# EAGLE library part MS561101BA03-00 (library Sensors)
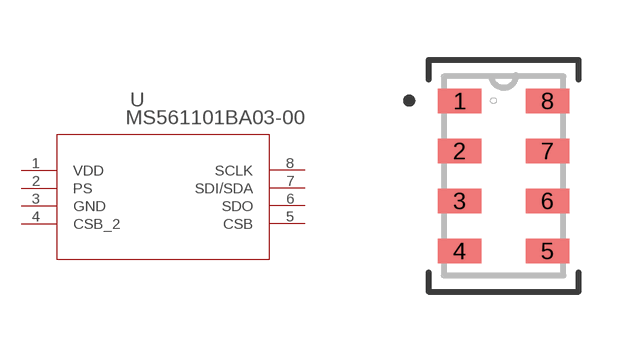
[diagram p1: symbol with the pads of SON8_MS5611; footprint SON8_MS5611]

Designator prefix U

## MS561101BA03-00 (BUILT_BY: EMA_UL_Team; CATEGORY: Board Level Pressure Sensors; COPYRIGHT: Copyright (C) 2016 Accelerated Designs. All rights reserved; DESCRIPTION: MS5611 BAROMETRIC SENSOR CM; MANUFACTURER_PART_NUMBER: MS561101BA03-00; OUTPUT-SPAN: 24 bit ADC; PACKAGE: Surface Mountable; PART_STATUS: active; PRODUCT_DESCRIPTION: MS5611 BAROMETRIC SENSOR CM; PRODUCT_TYPE: -; SENSOR_TYPE: Digital Pressure and Altimeter Sensor Modules; SERIES: MEAS MS5611; SUPPLY_VOLTAGE: 1.8  3.6; TE_PART_NUMBER: MS561101BA03-00; VENDOR: TE Connectivity)  [SON8_MS5611]
1  VDD  pwr
2  PS  in
3  GND  pas
4  CSB_2  in
5  CSB  in
6  SDO  out
7  SDI/SDA
8  SCLK  in

## Footprint SON8_MS5611 (pad centres in mm)
smd 1.092 x 0.61: 1 -1.1,1.875; 2 -1.1,0.625; 3 -1.1,-0.625; 4 -1.1,-1.875; 5 1.1,-1.875; 6 1.1,-0.625; 7 1.1,0.625; 8 1.1,1.875